# Altium footprint library hsbest.PcbLib: 389 footprints (part 22 of 25)
Each footprint in its own frame and in the unit in brackets; x right, y up, seen from the top. Pads: shape width x height; smd on the part's side, far side on the other; paste and mask are expansions set on the pad; w line width, h text height; cw(c..) or ccw(c..) is an arc to the next point about the centre after c.
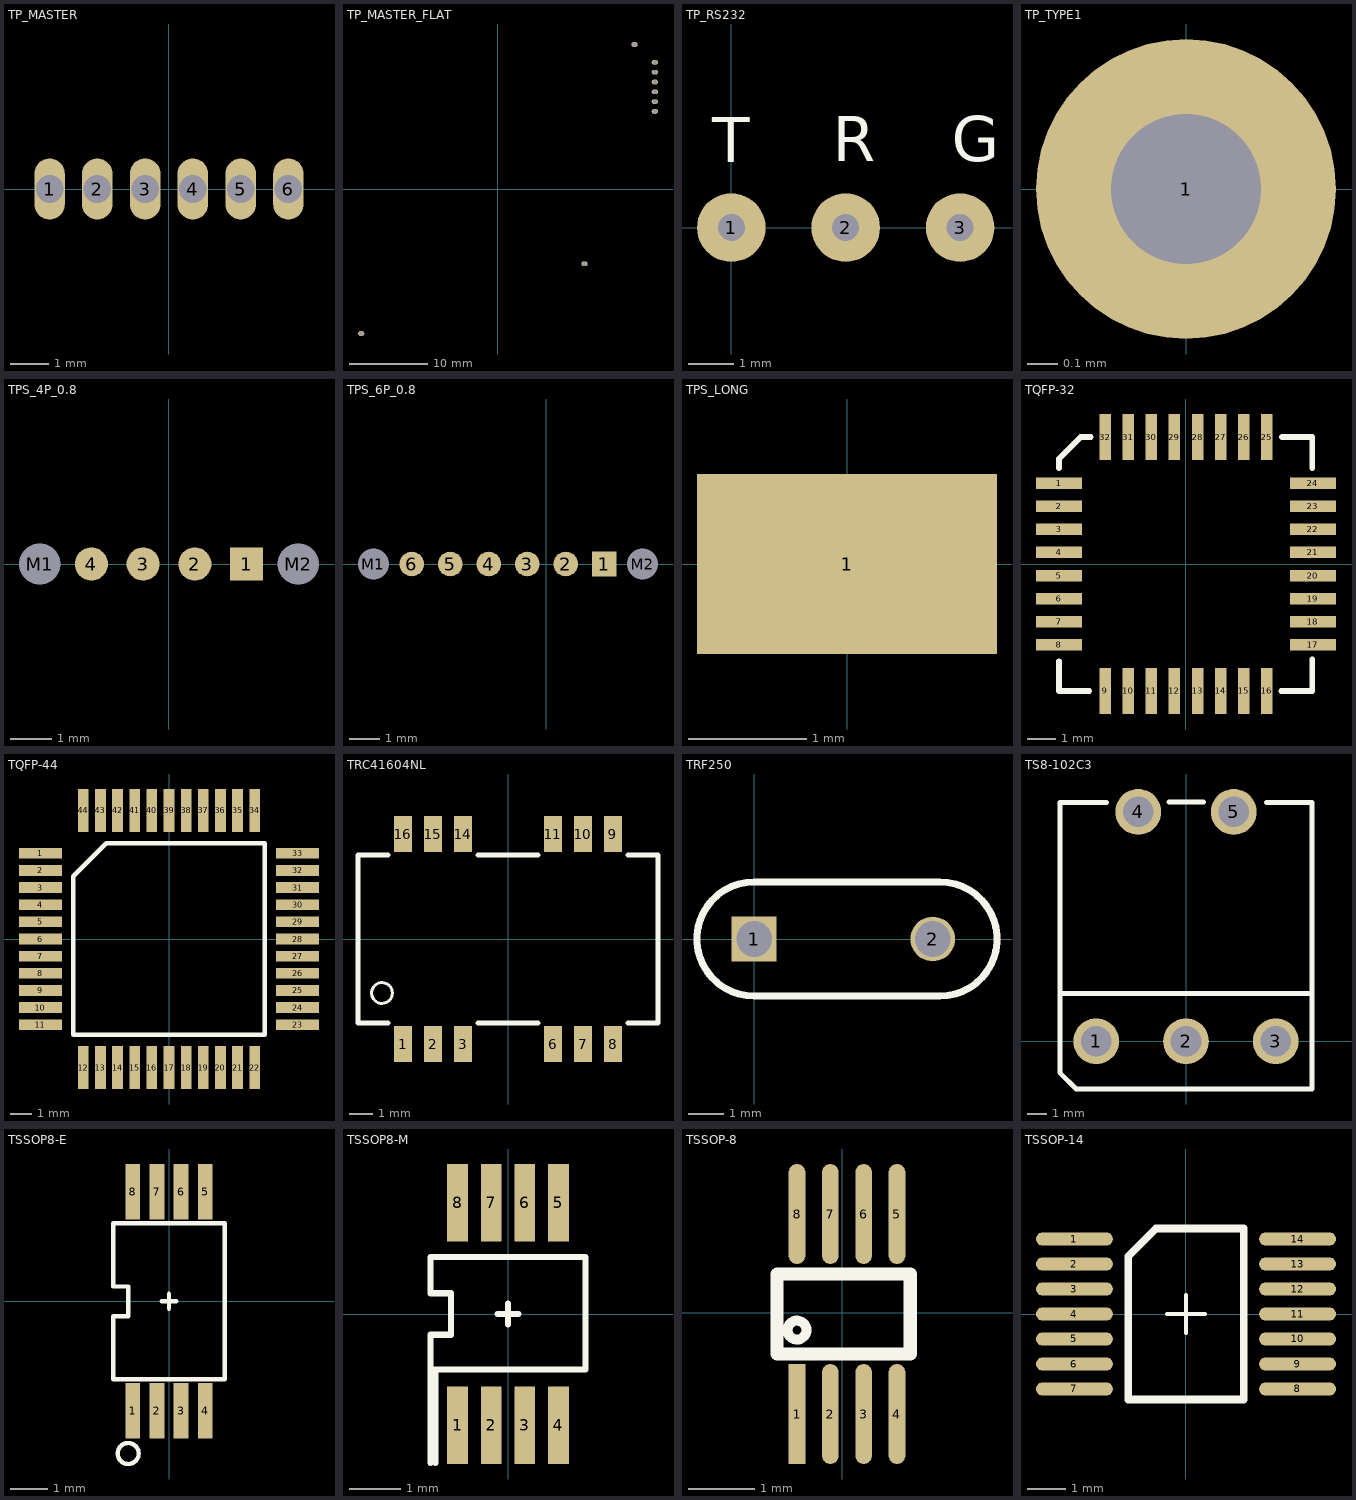
[diagram p21: the footprints below, top view; thin cyan lines are the x and y axes]

## TP_MASTER [mm]
pads (6):
  oval 0.8x1.6 hole 0.72: 1(-3.125,0) 2(-1.875,0) 3(-0.625,0) 4(0.625,0) 5(1.875,0) 6(3.125,0)

## TP_MASTER_FLAT [mm]
pads (9):
  oval 0.8x0.6 hole 0.5: 1(20,16.125) 2(20,14.875) 3(20,13.625) 4(20,12.375) 5(20,11.125) 6(20,9.875) 15(11.05,-9.525) 16(-17.4,-18.4) 17(17.4,18.4)

## TP_RS232 [mil]
pads (3):
  round 60 hole 23.62: 1(0,0) 2(100,0) 3(200,0)
Top Overlay:
  text "T" at -16.73,57.09 h39.37
  text "R" at 88.58,58.07 h39.37
  text "G" at 192.91,58.07 h39.37

## TP_TYPE1 [mm]
pads (1):
  round 1 hole 0.5: 1(0,0)

## TPS_4P_0.8 [mm]
pads (6):
  rect 0.8x0.8 smd: 1(1.875,0)
  round 0.8 smd: 2(0.625,0) 3(-0.625,0) 4(-1.875,0)
  round 0.8 hole 1 unplated: M1(-3.125,0) M2(3.125,0)

## TPS_6P_0.8 [mm]
pads (8):
  rect 0.8x0.8 smd: 1(1.875,0)
  round 0.8 smd: 2(0.625,0) 3(-0.625,0) 4(-1.875,0) 5(-3.125,0) 6(-4.375,0)
  round 0.8 hole 1 unplated: M1(-5.625,0) M2(3.125,0)

## TPS_LONG [mil]
pads (1):
  rect 100x60 smd: 1(0,0)

## TQFP-32 [mm]
pads (32):
  rect 1.6x0.4 smd: 1(-4.4,2.8) 2(-4.4,2) 3(-4.4,1.2) 4(-4.4,0.4) 5(-4.4,-0.4) 6(-4.4,-1.2) 7(-4.4,-2) 8(-4.4,-2.8) 17(4.4,-2.8) 18(4.4,-2) 19(4.4,-1.2) 20(4.4,-0.4) 21(4.4,0.4) 22(4.4,1.2) 23(4.4,2) 24(4.4,2.8)
  rect 0.4x1.6 smd: 9(-2.8,-4.4) 10(-2,-4.4) 11(-1.2,-4.4) 12(-0.4,-4.4) 13(0.4,-4.4) 14(1.2,-4.4) 15(2,-4.4) 16(2.8,-4.4) 25(2.8,4.4) 26(2,4.4) 27(1.2,4.4) 28(0.4,4.4) 29(-0.4,4.4) 30(-1.2,4.4) 31(-2,4.4) 32(-2.8,4.4)
Top Overlay:
  lines w0.2: -4.4,-3.375 -4.4,-4.4 -3.35,-4.4 ; -4.4,3.325 -4.4,3.65 -3.65,4.4 -3.3,4.4 ; 3.3,-4.4 4.375,-4.4 4.375,-3.3 ; 3.325,4.4 4.375,4.4 4.375,3.325

## TQFP-44 [mm]
pads (44):
  rect 2x0.5 smd: 1(-6,4) 2(-6,3.2) 3(-6,2.4) 4(-6,1.6) 5(-6,0.8) 6(-6,0) 7(-6,-0.8) 8(-6,-1.6) 9(-6,-2.4) 10(-6,-3.2) 11(-6,-4) 23(6,-4) 24(6,-3.2) 25(6,-2.4) 26(6,-1.6) 27(6,-0.8) 28(6,0) 29(6,0.8) 30(6,1.6) 31(6,2.4) 32(6,3.2) 33(6,4)
  rect 0.5x2 smd: 12(-4,-6) 13(-3.2,-6) 14(-2.4,-6) 15(-1.6,-6) 16(-0.8,-6) 17(0,-6) 18(0.8,-6) 19(1.6,-6) 20(2.4,-6) 21(3.2,-6) 22(4,-6) 34(4,6) 35(3.2,6) 36(2.4,6) 37(1.6,6) 38(0.8,6) 39(0,6) 40(-0.8,6) 41(-1.6,6) 42(-2.4,6) 43(-3.2,6) 44(-4,6)
Top Overlay:
  lines w0.2: -4.465,-4.465 -4.465,2.93 -2.93,4.465 4.465,4.465 4.465,-4.465 -4.465,-4.465

## TRC41604NL [mm]
pads (12):
  rect 0.76x1.52 smd: 1(-4.436,-4.445) 2(-3.168,-4.445) 3(-1.898,-4.445) 6(1.912,-4.445) 7(3.182,-4.445) 8(4.452,-4.445) 9(4.438,4.445) 10(3.168,4.445) 11(1.898,4.445) 14(-1.912,4.445) 15(-3.182,4.445) 16(-4.452,4.445)
Top Overlay:
  circle w0.127: c-5.334,-2.286 r0.439
  lines w0.203: -5.08,-3.556 -6.35,-3.555 -6.35,3.555 -5.08,3.556 ; -1.27,-3.556 1.27,-3.556 ; -1.27,3.556 1.27,3.556 ; 5.08,-3.556 6.35,-3.555 6.35,3.555 5.08,3.556

## TRF250 [mm]
pads (2):
  rect 1.254x1.254 hole 1: 1(0,0)
  round 1.254 hole 1: 2(5,0)
Top Overlay:
  lines w0.2: 0,-1.6 cw(c0,0) 0,1.6 2.9,1.6 5.2,1.6 cw(c5.2,0) 5.2,-1.6 2.9,-1.6 0,-1.6

## TS8-102C3 [mm] "温度传感器"
height 1.25
pads (5):
  round 2.4 hole 1.6: 1(-4.7,0) 2(0,0) 3(4.7,0) 4(-2.5,12) 5(2.5,12)
Top Overlay:
  lines w0.254: -4.15,12.5 -6.6,12.5 -6.6,2.5 ; -0.9,12.525 0.925,12.525 ; 4.2,12.5 6.6,12.5 6.6,2.5 ; -6.6,2.5 -6.6,-1.65 -5.75,-2.5 6.6,-2.5 6.6,2.5 ; -6.6,2.5 6.6,2.5

## TSSOP8-E [mm]
pads (8):
  rect 0.4x1.5 smd: 1(-0.975,-2.95) 2(-0.325,-2.95) 3(0.325,-2.95) 4(0.975,-2.95) 5(0.975,2.95) 6(0.325,2.95) 7(-0.325,2.95) 8(-0.975,2.95)
Top Overlay:
  circle w0.12: c-1.1,-4.1 r0.283
  lines w0.12: -0.2,0 0.2,0 ; 0,-0.2 0,0.2 ; -1.5,-2.1 1.5,-2.1 1.5,2.1 -1.5,2.1 -1.5,0.4 -1.1,0.4 -1.1,-0.4 -1.5,-0.4 -1.5,-2.1

## TSSOP8-M [mm]
pads (8):
  rect 0.4x1.5 smd: 1(-0.975,-2.15) 2(-0.325,-2.15) 3(0.325,-2.15) 4(0.975,-2.15) 5(0.975,2.15) 6(0.325,2.15) 7(-0.325,2.15) 8(-0.975,2.15)
Top Overlay:
  lines w0.12: -1.5,-2.875 -1.5,-1.075 ; -1.4,-2.875 -1.4,-1.075 ; -0.2,0 0.2,0 ; 0,-0.2 0,0.2 ; -1.5,-1.075 -1.5,-0.4 -1.1,-0.4 -1.1,0.4 -1.5,0.4 -1.5,1.1 1.5,1.1 1.5,-1.075 -1.5,-1.075

## TSSOP-8 [mm]
pads (8):
  rect 0.25x1.5 smd: 1(-0.68,-1.518)
  oval 0.25x1.5 smd: 2(-0.18,-1.518) 3(0.32,-1.518) 4(0.82,-1.518) 5(0.82,1.482) 6(0.32,1.482) 7(-0.18,1.482) 8(-0.68,1.482)
Top Overlay:
  circle w0.15: c-0.68,-0.259 r0.141
  lines w0.2: -0.98,-0.618 -0.98,-0.218 -0.98,0.182 -0.98,0.582 1.02,0.582 1.02,-0.618 -0.98,-0.618

## TSSOP-14 [mm] "TSOP, 16-Leads, Body 5x4.4mm, Pitch 0.65mm, IPC Low Density"
height 1.1
pads (14):
  oval 2x0.35 smd: 1(-2.9,1.95) 2(-2.9,1.3) 3(-2.9,0.65) 4(-2.9,0) 5(-2.9,-0.65) 6(-2.9,-1.3) 7(-2.9,-1.95) 8(2.9,-1.95) 9(2.9,-1.3) 10(2.9,-0.65) 11(2.9,0) 12(2.9,0.65) 13(2.9,1.3) 14(2.9,1.95)
Top Overlay:
  lines w0.1: -0.5,0 0.5,0 ; 0,-0.5 0,0.5
  lines w0.2: -1.5,-2.225 1.5,-2.225 1.5,2.225 -0.779,2.225 -1.5,1.504 -1.5,-2.225